# EAGLE library part DIP-BLACK-FEMALE-HEADER-R/A(10P-2.54-90D) (library Seeed-OPL-Connector)
320030053
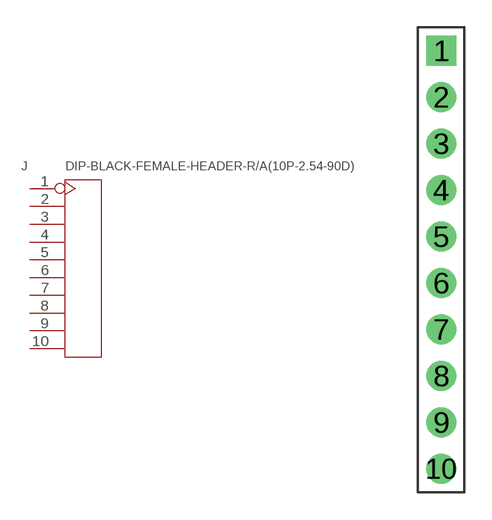
[diagram p40: symbol with the pads of H10-2.54-90D-FEMALE; footprint H10-2.54-90D-FEMALE]

Designator prefix J

## DIP-BLACK-FEMALE-HEADER-R/A(10P-2.54-90D) (VALUE: 10p-2.54-90d)  [H10-2.54-90D-FEMALE]
1  1
2  2
3  3
4  4
5  5
6  6
7  7
8  8
9  9
10  10

## Footprint H10-2.54-90D-FEMALE (pad centres in mm)
drill 0.889 pad 1.651 square: 1 0,11.43
drill 0.889 pad 1.651: 2 0,8.89; 3 0,6.35; 4 0,3.81; 5 0,1.27; 6 0,-1.27; 7 0,-3.81; 8 0,-6.35; 9 0,-8.89; 10 0,-11.43